# Altium footprint library PcbLib.PcbLib: 285 footprints (part 13 of 18)
Each footprint in its own frame and in the unit in brackets; x right, y up, seen from the top. Pads: shape width x height; smd on the part's side, far side on the other; paste and mask are expansions set on the pad; w line width, h text height; cw(c..) or ccw(c..) is an arc to the next point about the centre after c.
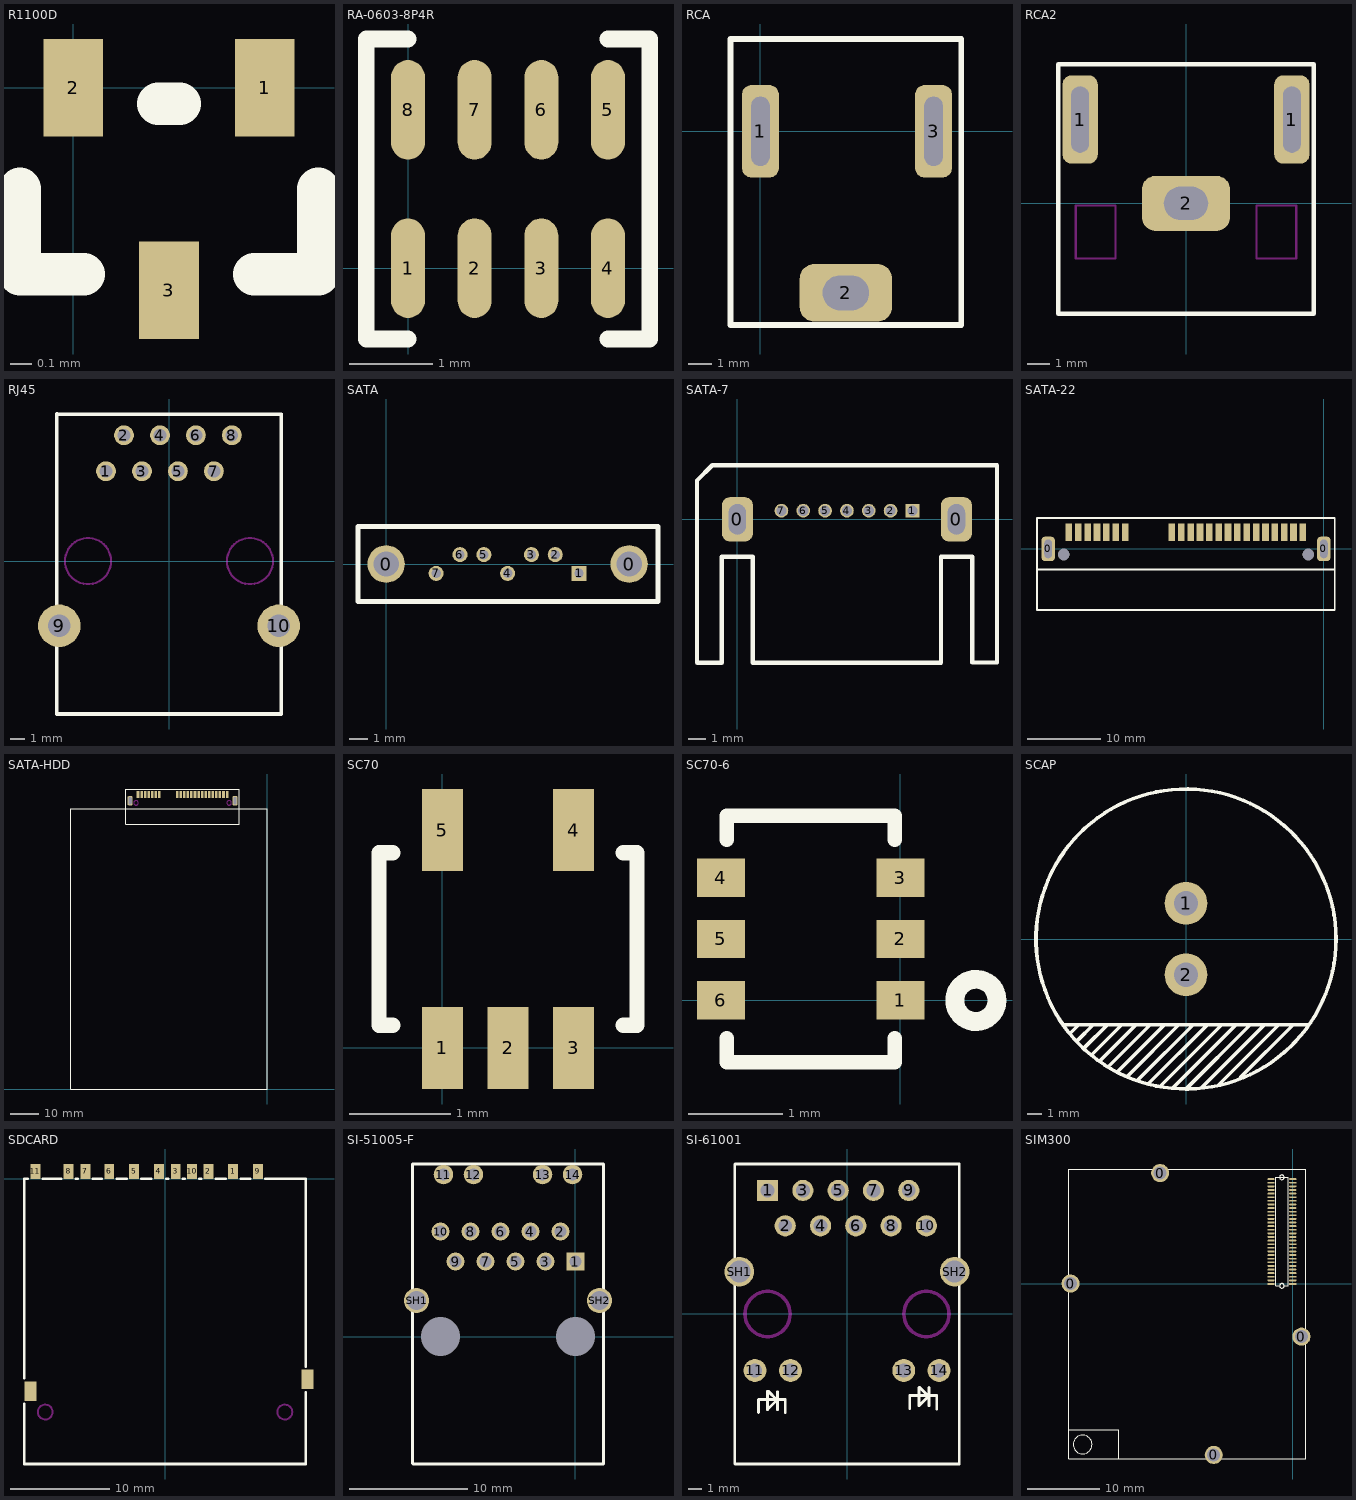
[diagram p12: the footprints below, top view; thin cyan lines are the x and y axes]

## R1100D [mil]
pads (3):
  rect 11x18 smd: 1(35.44,0) 2(0,0) 3(17.72,-37.4)
Top Overlay:
  lines w7.87: -9.84,-18.7 -9.84,-34.45 1.97,-34.45 ; 15.75,-2.95 19.69,-2.95 ; 33.47,-34.45 45.28,-34.45 45.28,-18.7

## RA-0603-8P4R [mil]
pads (8):
  oval 16x47 smd: 1(0,0) 2(31.49,0) 3(62.99,0) 4(94.48,0) 5(94.48,74.8) 6(62.99,74.8) 7(31.49,74.8) 8(0,74.8)
Top Overlay:
  lines w7.87: 0,-33.47 -19.68,-33.47 ; 0,108.27 -19.69,108.27 ; 94.49,-33.47 114.17,-33.47 114.17,108.27 94.49,108.27 ; -19.68,-33.47 -19.68,108.27 ; -19.68,-33.47 -19.68,-33.47 ; -19.69,108.27 -19.68,108.27

## RCA [mm]
pads (3):
  rrect50% 1.6x4 hole 0.8 slot 3 at 90 deg: 1(0,0) 3(7.5,0)
  rrect50% 4x2.5 hole 1.5 slot 2 at 0 deg: 2(3.7,-7)
Top Overlay:
  lines w0.254: -1.3,-8.4 8.7,-8.4 8.7,4 -1.3,4 -1.3,-8.4

## RCA2 [mm]
pads (3):
  rrect50% 1.6x4 hole 0.8 slot 3 at 90 deg: 1(-4.8,3.8) 1(4.8,3.8)
  rrect50% 4x2.5 hole 1.5 slot 2 at 0 deg: 2(0,0)
Top Overlay:
  lines w0.2: -5.8,-5 -5.8,6.3 5.8,6.3 5.8,-5 -5.8,-5
Keep-Out Layer:
  lines w0.1: -5,-2.5 -3.2,-2.5 -3.2,-0.1 -5,-0.1 -5,-2.5 ; 3.2,-2.5 5,-2.5 5,-0.1 3.2,-0.1 3.2,-2.5

## RJ45 [mm]
pads (10):
  round 1.4 hole 0.9: 1(-4.45,6.35) 2(-3.18,8.89) 3(-1.91,6.35) 4(-0.64,8.89) 5(0.63,6.35) 6(1.9,8.89) 7(3.17,6.35) 8(4.44,8.89)
  round 3 hole 1.6: 9(-7.75,-4.57) 10(7.75,-4.57)
Top Overlay:
  lines w0.254: -7.91,10.39 -7.92,10.38 ; -7.92,10.38 3.53,10.38 7.92,10.38 7.94,10.36 7.94,-10.8 -7.92,-10.8 -7.92,10.38
Keep-Out Layer:
  circle w0.15: c5.72,0 r1.63
  circle w0.15: c-5.72,0 r1.63

## SATA [mm]
pads (9):
  round 2 hole 1.35: 0(0,0) 0(12.96,0)
  rect 0.8x0.8 hole 0.5: 1(10.29,-0.5)
  round 0.8 hole 0.5: 2(9.02,0.5) 3(7.75,0.5) 4(6.48,-0.5) 5(5.21,0.5) 6(3.94,0.5) 7(2.67,-0.5)
Top Overlay:
  lines w0.254: -1.5,-2 14.5,-2 14.5,2 -1.5,2 -1.5,-2

## SATA-7 [mm]
pads (9):
  rrect50% 1.8x2.57 hole 1 slot 1.77 at 90 deg: 0(0,0) 0(12.74,0)
  rect 0.8x0.8 hole 0.6: 1(10.18,0.5)
  round 0.8 hole 0.6: 2(8.91,0.5) 3(7.64,0.5) 4(6.37,0.5) 5(5.1,0.5) 6(3.83,0.5) 7(2.56,0.5)
Top Overlay:
  lines w0.127: 11.84,-8.34 11.85,-8.35
  lines w0.254: -2.35,-8.33 -2.35,0 -2.35,2.26 -1.46,3.15 0,3.15 15.1,3.15 15.1,-0.01 15.1,-8.32 15.09,-8.33 14.53,-8.33 13.65,-8.33 13.65,-2.18 11.84,-2.18 11.84,-8.34 ; -2.34,-8.34 -0.9,-8.34 -0.9,-2.18 0.9,-2.18 0.9,-8.35 ; 0.91,-8.34 0.9,-8.35 ; 11.83,-8.35 0.9,-8.35

## SATA-22 [mm]
pads (26):
  rrect50% 1.8x3.3 hole 1 slot 2.5 at 90 deg: 0(-37.42,0) 0(0,0)
  rect 0.9x2.4 smd: 1(-34.605,2.24) 2(-33.335,2.24) 3(-32.065,2.24) 4(-30.795,2.24) 5(-29.525,2.24) 6(-28.255,2.24) 7(-26.98,2.24) 8(-20.625,2.24) 9(-19.35,2.24) 10(-18.085,2.24) 11(-16.815,2.24) 12(-15.545,2.24) 13(-14.275,2.24) 14(-13.005,2.24) 15(-11.735,2.24) 16(-10.465,2.24) 17(-9.195,2.24) 18(-7.925,2.24) 19(-6.655,2.24) 20(-5.385,2.24) 21(-4.115,2.24) 22(-2.845,2.24)
  round 1.524 hole 1.6 unplated: ""(-35.31,-0.76) ""(-2.11,-0.76)
Top Overlay:
  lines w0.1: -37.42,4.2 0.18,4.2
  lines w0.254: -38.92,-2.8 1.48,-2.8 ; -38.92,-8.3 1.48,-8.3 1.48,4.2 -38.92,4.2 -38.92,-8.3

## SATA-HDD [mm]
pads (24):
  rrect50% 1.8x3.3 hole 1 slot 2.5 at 90 deg: 0(-48.87,102.8) 0(-11.45,102.8)
  rect 0.9x2.4 smd: 1(-46.055,105.04) 2(-44.785,105.04) 3(-43.515,105.04) 4(-42.245,105.04) 5(-40.975,105.04) 6(-39.705,105.04) 7(-38.43,105.04) 8(-32.075,105.04) 9(-30.8,105.04) 10(-29.535,105.04) 11(-28.265,105.04) 12(-26.995,105.04) 13(-25.725,105.04) 14(-24.455,105.04) 15(-23.185,105.04) 16(-21.915,105.04) 17(-20.645,105.04) 18(-19.375,105.04) 19(-18.105,105.04) 20(-16.835,105.04) 21(-15.565,105.04) 22(-14.295,105.04)
Top Overlay:
  lines w0.1: -48.87,107 -11.27,107
  lines w0.254: -70,0 0,0 0,100 -9.97,100 -50.37,100 -70,100 -70,0 ; -50.37,94.5 -9.97,94.5 -9.97,107 -50.37,107 -50.37,94.5
Keep-Out Layer:
  circle w0.1: c-13.56,102.04 r0.8
  circle w0.1: c-46.76,102.04 r0.8

## SC70 [mil]
pads (5):
  rect 16x32 smd: 1(0,0) 2(25.6,0) 3(51.2,0) 4(51.2,85) 5(0,85)
Top Overlay:
  lines w6: -19.4,8.9 -24.7,8.9 -24.7,76.1 -19.4,76.1 ; 70.6,8.9 75.9,8.9 75.9,76.1 70.6,76.1

## SC70-6 [mil] "SC70_6LEAD"
pads (6):
  rect 20x16 smd: 1(0,0) 2(0,25.6) 3(0,51.2) 4(-74.82,51.2) 5(-74.82,25.6) 6(-74.82,0)
Top Overlay:
  circle w7.87: c31.5,0 r8.8
  lines w5.98: -47.41,-25.82 -17.96,-25.82
  lines w6: -72.41,-15.82 -72.41,-25.82 -47.41,-25.82 ; -72.41,67.02 -72.41,77.02 -2.41,77.02 -2.41,67.02 ; -27.41,-25.82 -2.41,-25.82 -2.41,-15.82

## SCAP [mm]
pads (2):
  round 3 hole 1.7: 1(0,2.5) 2(0,-2.5)
Top Overlay:
  circle w0.254: c0,0 r10.5
  lines w0.254: -8.6,-6 8.6,-6 ; -8.1,-6.6 -7.5,-6 ; -7.6,-7.1 -6.5,-6 ; -7.1,-7.7 -7.1,-7.6 -5.5,-6 ; -6.6,-8.1 -4.5,-6 ; -6,-8.5 -3.5,-6 ; -5.4,-8.9 -2.5,-6 ; -4.7,-9.2 -1.5,-6 ; -4.1,-9.6 -0.5,-6 ; -3.3,-9.8 0.5,-6 ; -2.6,-10.1 1.5,-6 ; -1.8,-10.3 2.5,-6 ; -0.9,-10.4 3.5,-6 ; 0,-10.5 4.5,-6 ; 1.1,-10.4 5.5,-6 ; 2.3,-10.2 6.5,-6 ; 3.8,-9.7 7.5,-6 ; -1.5,-6 -1.5,-6 ; 2.5,-6 2.5,-6 ; 4.5,-6 4.5,-6 ; 8.5,-6 8.5,-6

## SDCARD [mm]
pads (13):
  rect 1x1.5 smd: 1(6.88,0.75) 2(4.38,0.75) 3(1.08,0.75) 4(-0.63,0.75) 5(-3.13,0.75) 6(-5.63,0.75) 7(-8.05,0.75) 8(-9.75,0.75) 9(9.38,0.75) 10(2.73,0.75) 11(-13.1,0.75)
  rect 1.2x2 smd: ""(-13.6,-21.45) ""(14.4,-20.25)
Top Overlay:
  lines w0.254: -14.2,-22.7 -14.2,-28.8 14.2,-28.8 14.2,-21.54 ; -14.2,-20.16 -14.2,0 -13.87,0 ; -12.35,0 -10.5,0 ; -9,0 -8.81,0 ; -7.3,0 -6.37,0 ; -4.9,0 -3.88,0 ; -2.4,0 -1.38,0 ; 0.12,0 0.33,0 ; 1.81,0 1.99,0 ; 3.47,0 3.64,0 ; 5.11,0 6.12,0 ; 7.63,0 8.63,0 ; 10.13,0 14.2,0 14.2,-19
Keep-Out Layer:
  circle w0.2: c-12.1,-23.55 r0.75
  circle w0.2: c12.1,-23.55 r0.75

## SI-51005-F [mil]
pads (18):
  rect 60x60 hole 39.37: 1(0,250)
  round 60 hole 39.37: 2(-50,350) 3(-100,250) 4(-150,350) 5(-200,250) 6(-250,350) 7(-300,250) 8(-350,350) 9(-400,250) 10(-450,350)
  round 65 hole 40: 11(-440.16,540.16) 12(-340.16,540.16) 13(-109.84,540.16) 14(-9.84,540.16)
  round 84 hole 63: SH1(-529.92,120.08) SH2(79.92,120.08)
  round 118.11 hole 129.92 unplated: ""(-450,0) ""(0,0)
Top Overlay:
  lines w7.87: -543,-424 -542,-425
  lines w10: -543,-424 -543,574.8 ; -542,-425 93,-425 93,574.8 ; -542,575.2 93,575.2

## SI-61001 [mil] "SI-61001"
pads (16):
  rect 60x60 hole 39.37: 1(-225,349.91)
  round 60 hole 39.37: 2(-175,249.91) 3(-125,349.91) 4(-75,249.91) 5(-25,349.91) 6(25,249.91) 7(75,349.91) 8(125,249.91) 9(175,349.91) 10(225,249.91)
  round 65 hole 40: 11(-260.83,-159.93) 12(-160,-160.09) 13(160.83,-159.93) 14(261,-160.09)
  round 84 hole 63: SH1(-304.92,119.99) SH2(304.92,119.99)
Top Overlay:
  lines w7.87: -251,-279.53 -251,-242.09 -175,-242.09 -175,-280.09 ; -225,-219.09 -225,-271.09 -198,-244.09 -223,-219.09 ; -196.85,-271.65 -196.85,-220.47 ; 178,-267.72 178,-231.09 254,-231.09 254,-269.09 ; 204,-208.09 204,-260.09 231,-233.09 206,-208.09 ; 232.28,-259.84 232.28,-208.66 ; -318,-424.09 -318,423.91 -317,424.91 318,424.91 318,-425.09 -317,-425.09 -318,-424.09
Keep-Out Layer:
  circle w10: c225,-0.09 r63.98
  circle w10: c-225,-0.09 r63.98

## SIM300 [mm]
pads (64):
  round 2.5 hole 1.8: 0(-30.73,0.06) 0(-18.34,15.34) 0(-10.93,-23.64) 0(1.2,-7.28)
  rect 1x0.25 smd: 1(0,0)
  oval 1x0.25 smd: 2(-3,0) 3(0,0.5) 4(-3,0.5) 5(0,1) 6(-3,1) 7(0,1.5) 8(-3,1.5) 9(0,2) 10(-3,2) 11(0,2.5) 12(-3,2.5) 13(0,3) 14(-3,3) 15(0,3.5) 16(-3,3.5) 17(0,4) 18(-3,4) 19(0,4.5) 20(-3,4.5) 21(0,5) 22(-3,5) 23(0,5.5) 24(-3,5.5) 25(0,6) 26(-3,6) 27(0,6.5) 28(-3,6.5) 29(0,7) 30(-3,7) 31(0,7.5) 32(-3,7.5) 33(0,8) 34(-3,8) 35(0,8.5) 36(-3,8.5) 37(0,9) 38(-3,9) 39(0,9.5) 40(-3,9.5) 41(0,10) 42(-3,10) 43(0,10.5) 44(-3,10.5) 45(0,11) 46(-3,11) 47(0,11.5) 48(-3,11.5) 49(0,12) 50(-3,12) 51(0,12.5) 52(-3,12.5) 53(0,13) 54(-3,13) 55(0,13.5) 56(-3,13.5) 57(0,14) 58(-3,14) 59(0,14.5) 60(-3,14.5)
Top Overlay:
  circle w0.1: c-1.5,-0.25 r0.325
  circle w0.1: c-1.5,14.75 r0.325
  circle w0.1: c-29.06,-22.18 r1.3
  lines w0.1: -1.825,-0.25 -2.365,-0.25 -2.365,14.75 -0.635,14.75 -0.635,-0.25 -1.2,-0.25 ccw(c-1.5,-0.25) -1.8,-0.25
  lines w0.127: -30.98,-20.12 -24.03,-20.12 -24.03,-24.14 ; -30.98,-24.14 1.82,-24.14 1.82,15.86 -30.98,15.86 -30.98,-24.14